# Altium footprint library Ocreeb MK 2 _core _pcb.PcbLib: 14 footprints
Each footprint in its own frame and in the unit in brackets; x right, y up, seen from the top. Pads: shape width x height; smd on the part's side, far side on the other; paste and mask are expansions set on the pad; w line width, h text height; cw(c..) or ccw(c..) is an arc to the next point about the centre after c.
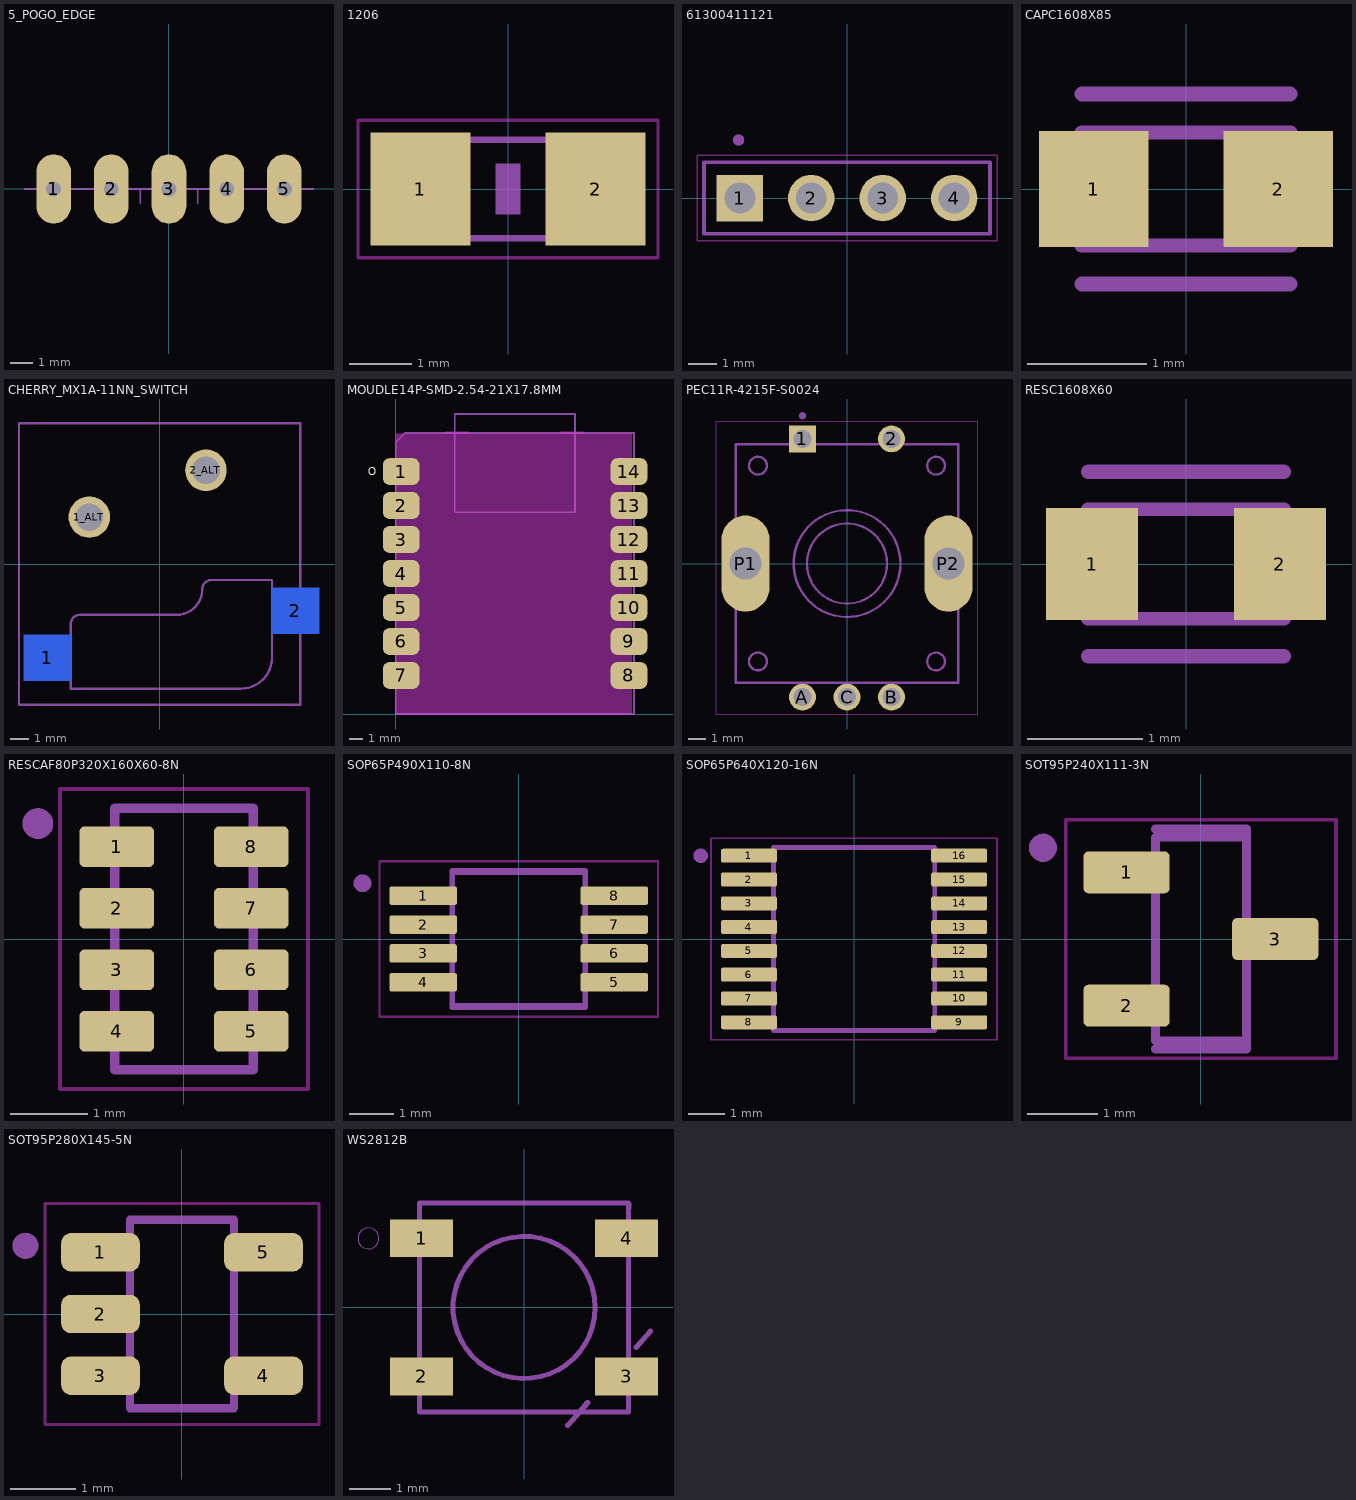
[diagram p0: the footprints below, top view; thin cyan lines are the x and y axes]

## 5_POGO_EDGE [mil] "5_POGO_EDGE"
pads (5):
  oval 60x120 / inner round 0 / far side oval 60x120 hole 25.59: 1(-200,0) 2(-100,0) 3(0,0) 4(100,0) 5(200,0)
Mechanical 7:
  lines w3: -250,0 50,0 ; -50,-25 -50,0 ; 50,-25 50,0 ; 250,0 50,0

## 1206 [mil] "1206"
pads (2):
  rect 62.99x70.87 smd: 1(-55.12,0) 2(55.12,0)
Top Layer keep-out:
  lines w2: -94.49,-43.31 94.49,-43.31 94.49,43.31 -94.49,43.31 -94.49,-43.31
Mechanical 4:
  region: -67,-33.5 -67,33.43 -37.47,33.43 -37.47,-33.5
  region: 37.47,-33.43 37.47,33.5 67,33.5 67,-33.43
  lines w4: -37.99,-30.98 37.99,-30.98 ; -37.99,30.98 37.99,30.98
Bottom Glue Points:
  region: -7.87,-15.75 -7.87,15.75 7.87,15.75 7.87,-15.75

## 61300411121 [mil] "61300411121"
pads (4):
  rect 64.97x64.97 / inner round 0 / far side rect 64.97x64.97 hole 43.31: 1(-150,0)
  round 64.97 / inner round 0 / far side round 64.97 hole 43.31: 2(-50,0) 3(50,0) 4(150,0)
Top Layer keep-out:
  lines w1.97: -209.84,-59.84 -209.84,59.84 209.84,59.84 209.84,-59.84 -209.84,-59.84
Mechanical 3:
  lines w5: -200,-50 200,-50 200,50 -200,50 -200,-50
Mechanical 7:
  circle w7.87: c-151.64,81.26 r3.94
  lines w5: -200,-50 200,-50 200,50 -200,50 -200,-50

## CAPC1608X85 [mil] "CAPC1608X85"
pads (2):
  rect 36.26x38.2 smd: 1(-30.5,0) 2(30.5,0)
Mechanical 4:
  lines w4.72: -34.45,-18.7 34.45,-18.7 34.45,18.7 -34.45,18.7 -34.45,-18.7
Mechanical 8:
  lines w5: -34.45,-31.46 34.45,-31.46 ; -34.45,31.46 34.45,31.46

## CHERRY_MX1A-11NN_SWITCH [mil] "CHERRY_MX1A-11NN_SWITCH"
pads (4):
  rect 100.39x98.43 smd far side: 1(-239.76,-200) 2(289.76,-100)
  round 88.59 / inner round 0 / far side round 88.59 hole 59.06: 1_ALT(-150,100) 2_ALT(98.82,200)
Mechanical 4:
  lines w5: -189.57,-265.94 173.62,-265.94 ccw(c173.62,-200) 239.57,-200 239.57,-34.06 110.63,-34.06 ccw(c110.62,-53.74) 90.94,-53.74 cw(c36.22,-53.74) 36.22,-108.46 -169.88,-108.46 ccw(c-169.88,-128.15) -189.57,-128.15 -189.57,-265.94
Mechanical 7:
  lines w5: -300,-300 300,-300 300,300 -300,300 -300,-300
Mechanical 8:
  lines w5: -189.57,-138.19 -189.57,-128.15 cw(c-169.88,-128.15) -169.88,-108.46 36.22,-108.46 ccw(c36.22,-53.74) 90.94,-53.74 cw(c110.62,-53.74) 110.63,-34.06 ; -60.63,-265.94 173.62,-265.94 ccw(c173.62,-200) 239.57,-200 239.57,-161.81

## MOUDLE14P-SMD-2.54-21X17.8MM [mm] "MOUDLE14P-SMD-2.54-21X17.8MM"
pads (14):
  rrect50% 2.75x2 smd: 1(0.403,18.12) 2(0.403,15.58) 3(0.403,13.04) 4(0.403,10.5) 5(0.403,7.96) 6(0.403,5.42) 7(0.403,2.88) 8(17.432,2.88) 9(17.432,5.42) 10(17.432,7.96) 11(17.432,10.5) 12(17.432,13.04) 13(17.432,15.58) 14(17.432,18.12)
Top Layer keep-out:
  region: 0,0 0,20.955 17.653,20.955 17.653,0
  region: 12.319,18.415 12.319,21.082 14.097,21.082 14.097,18.415
  region: 12.319,14.351 12.319,17.018 14.097,17.018 14.097,14.351
  region: 3.683,14.351 3.683,17.018 5.461,17.018 5.461,14.351
  region: 3.683,18.415 3.683,21.082 5.461,21.082 5.461,18.415
  region: 6.35,0.635 6.35,3.175 12.065,3.175 12.065,0.635
  region: 6.35,17.78 6.35,20.32 11.43,20.32 11.43,17.78
Top Overlay:
  circle w0: c-1.778,18.161 r0.254
Mechanical 8:
  lines w0.127: 4.396,22.425 4.396,15.072 13.395,15.072 13.395,22.424 4.4,22.424 ; 0,0 0,20.328 0.672,21 17.8,21 17.8,0 0,0

## PEC11R-4215F-S0024 [mm] "PEC11R-4215F-S0024"
pads (7):
  rect 1.508x1.508 / inner round 0 / far side rect 1.508x1.508 hole 1: 1(-2.5,7)
  round 1.508 / inner round 0 / far side round 1.508 hole 1: 2(2.5,7) A(-2.5,-7.5) B(2.5,-7.5) C(0,-7.5)
  oval 2.7x5.4 / inner round 0 / far side oval 2.7x5.4 hole 1.8: P1(-5.7,0) P2(5.7,0)
Top Layer keep-out:
  lines w0.05: -7.35,-8.45 7.35,-8.45 7.35,8 -7.35,8 -7.35,-8.45
Mechanical 2:
  lines w0.05: -6.6,-1.3 -4.8,-1.3 -4.8,1.3 -6.6,1.3 -6.6,-1.3 ; 4.8,-1.3 6.6,-1.3 6.6,1.3 4.8,1.3 4.8,-1.3
Mechanical 3:
  circle w0.127: c-5,5.5 r0.5
  circle w0.127: c5,5.5 r0.5
  circle w0.127: c-5,-5.5 r0.5
  circle w0.127: c5,-5.5 r0.5
  lines w0.127: -6.25,-6.7 6.25,-6.7 6.25,6.7 -6.25,6.7 -6.25,-6.7
Mechanical 7:
  circle w0.127: c0,0 r3
  circle w0.127: c0,0 r2.25
  circle w0.2: c-2.5,8.3 r0.1
  lines w0.127: -6.25,-1.6 -6.25,-6.7 -3.3,-6.7 ; -6.25,1.5 -6.25,6.7 -3.4,6.7 ; -1.5,6.7 1.5,6.7 ; 3.4,6.7 6.25,6.7 6.25,1.5 ; 3.5,-6.7 6.25,-6.7 6.25,-1.5

## RESC1608X60 [mil] "RESC1608X60"
pads (2):
  rect 31.44x38.34 smd: 1(-32.09,0) 2(32.09,0)
Mechanical 4:
  lines w4.72: -33.46,-18.7 33.46,-18.7 33.46,18.7 -33.46,18.7 -33.46,-18.7
Mechanical 8:
  lines w5: -33.46,-31.53 33.46,-31.53 ; -33.46,31.53 33.46,31.53

## RESCAF80P320X160X60-8N [mil] "RESCAF80P320X160X60-8N"
pads (8):
  rrect25% 38.19x20.87 smd: 1(-34.45,47.24) 2(-34.45,15.75) 3(-34.45,-15.75) 4(-34.45,-47.24) 5(34.45,-47.24) 6(34.45,-15.75) 7(34.45,15.75) 8(34.45,47.24)
Top Layer keep-out:
  lines w1.97: -63.39,-76.77 -63.39,76.77 63.39,76.77 63.39,-76.77 -63.39,-76.77
Mechanical 4:
  circle w7.87: c-74.8,59.06 r3.94
  lines w5: -35.43,-66.93 -35.43,66.93 35.43,66.93 35.43,-66.93 -35.43,-66.93
Mechanical 8:
  circle w7.87: c-74.8,59.06 r3.94
  lines w5: -35.43,-66.93 35.43,-66.93 ; -35.43,66.93 35.43,66.93

## SOP65P490X110-8N [mil] "SOP65P490X110-8N"
pads (8):
  rrect25% 60x16.5 smd: 1(-84.65,38.39) 2(-84.65,12.8) 3(-84.65,-12.8) 4(-84.65,-38.39) 5(84.65,-38.39) 6(84.65,-12.8) 7(84.65,12.8) 8(84.65,38.39)
Top Layer keep-out:
  lines w1.97: -123.43,-68.9 -123.43,68.9 123.43,68.9 123.43,-68.9 -123.43,-68.9
Mechanical 4:
  circle w7.87: c-138.58,49.41 r3.94
  lines w5: -59.06,-59.06 -59.06,59.06 59.06,59.06 59.06,-59.06 -59.06,-59.06
Mechanical 8:
  circle w7.87: c-138.58,49.41 r3.94
  lines w5: -59.06,-60.43 59.06,-60.43 ; -59.06,60.43 59.06,60.43

## SOP65P640X120-16N [mil] "SOP65P640X120-16N"
pads (16):
  rrect25% 60x15 smd: 1(-112.99,89.57) 2(-112.99,63.98) 3(-112.99,38.39) 4(-112.99,12.8) 5(-112.99,-12.8) 6(-112.99,-38.39) 7(-112.99,-63.98) 8(-112.99,-89.57) 9(112.99,-89.57) 10(112.99,-63.98) 11(112.99,-38.39) 12(112.99,-12.8) 13(112.99,12.8) 14(112.99,38.39) 15(112.99,63.98) 16(112.99,89.57)
Top Layer keep-out:
  lines w1.97: -153.74,-108.27 153.74,-108.27 153.74,108.27 -153.74,108.27 -153.74,-108.27
Mechanical 4:
  circle w7.87: c-164.96,89.57 r3.94
  lines w5: -86.61,-98.43 86.61,-98.43 86.61,98.43 -86.61,98.43 -86.61,-98.43
Mechanical 8:
  circle w7.87: c-164.96,89.57 r3.94
  lines w5: -69.49,-98.43 69.49,-98.43 ; -69.49,98.43 69.49,98.43

## SOT95P240X111-3N [mil] "SOT95P240X111-3N"
pads (3):
  rrect25% 48.43x23.62 smd: 1(-41.73,37.4) 2(-41.73,-37.4) 3(41.73,0)
Top Layer keep-out:
  lines w1.97: -75.79,-66.93 -75.79,66.93 75.79,66.93 75.79,-66.93 -75.79,-66.93
Mechanical 4:
  circle w7.87: c-88.58,51.18 r3.94
  lines w5: -25.59,-57.09 25.59,-57.09 25.59,57.09 -25.59,57.09 -25.59,-57.09
Mechanical 8:
  circle w7.87: c-88.58,51.18 r3.94
  lines w5: -25.59,-61.81 25.59,-61.81 25.59,-24.41 ; -25.59,61.81 25.59,61.81 25.59,24.41

## SOT95P280X145-5N [mm] "SOT95P280X145-5N"
pads (5):
  rrect50% 1.21x0.59 smd: 1(-1.255,0.95) 2(-1.255,0) 3(-1.255,-0.95) 4(1.255,-0.95) 5(1.255,0.95)
Top Layer keep-out:
  lines w0.05: -2.11,-1.7 2.11,-1.7 2.11,1.7 -2.11,1.7 -2.11,-1.7
Mechanical 4:
  circle w0.2: c-2.41,1.05 r0.1
  lines w0.127: -0.8,-1.45 -0.8,1.45 0.8,1.45 0.8,-1.45 -0.8,-1.45
Mechanical 8:
  circle w0.2: c-2.41,1.05 r0.1
  lines w0.127: -0.33,-1.45 0.33,-1.45 ; -0.33,1.45 0.33,1.45 ; 0.8,-0.335 0.8,0.335

## WS2812B [mm] "WS2812B"
pads (4):
  rect 1.5x0.9 smd: 1(-2.45,1.65) 2(-2.45,-1.65) 3(2.45,-1.65) 4(2.45,1.65)
Mechanical 4:
  lines w0.12: -2.5,-2.5 2.5,-2.5 2.5,2.5 -2.5,2.5 -2.5,-2.5
Mechanical 8:
  circle w0.12: c0,0 r1.7
  circle w0: c-3.721,1.65 r0.25
  lines w0.12: -2.5,-2.388 -2.5,-2.5 2.5,-2.5 2.5,-2.388 ; -2.5,-0.711 -2.5,0.711 ; -2.5,2.377 -2.5,2.489 ; -2.5,2.5 2.5,2.5 ; 2.5,-0.711 2.5,0.711 ; 2.504,2.377 2.504,2.489
  lines w0.127: 1.046,-2.815 1.522,-2.273 ; 2.675,-0.959 3.017,-0.569